# Altium footprint library Connectors.PcbLib: 38 footprints (part 3 of 3)
Each footprint in its own frame and in the unit in brackets; x right, y up, seen from the top. Pads: shape width x height; smd on the part's side, far side on the other; paste and mask are expansions set on the pad; w line width, h text height; cw(c..) or ccw(c..) is an arc to the next point about the centre after c.
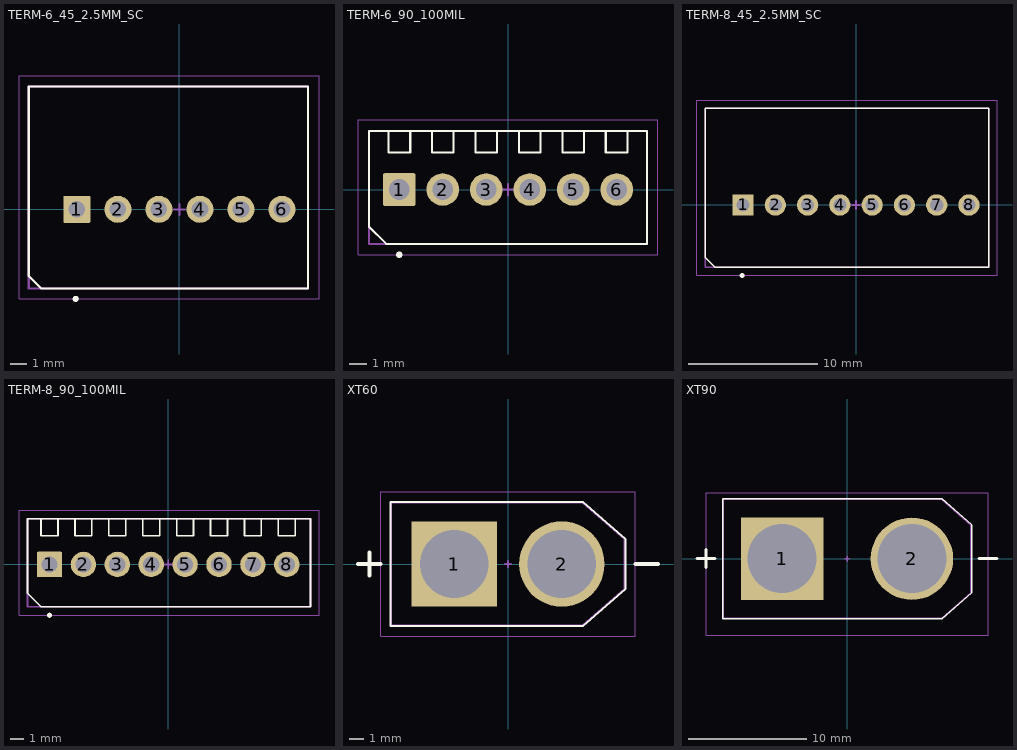
[diagram p2: the footprints below, top view; thin cyan lines are the x and y axes]

## TERM-6_45_2.5MM_SC [mil] "Spring-Cage 6 pos Terminal Block 45deg entry 2.5mm pitch, based on 1989780"
height 515
pads (7):
  rrect10% 65x65 hole 40: 1(-246.06,0)
  round 65 hole 40: 2(-147.64,0) 3(-49.21,0) 4(49.21,0) 5(147.64,0) 6(246.06,0)
  round 15 on Top Overlay: ""(-248.94,-215)
Top Overlay:
  lines w5: -361.57,-160 -331.57,-190 308.43,-190 308.43,295 -361.57,295 -361.57,-160
Top Designator:
  text "'.Comment'" at -86.55,93.34 h20
  text ".Designator" at -101.54,133.34 h20
Top Assembly (Mech13):
  circle w10: c-246.06,0 r2.5
  lines w5: -13,0 13,0 ; 0,-13 0,13 ; -361.57,-190 308.43,-190 308.43,295 -361.57,295 -361.57,-190
Top Courtyard (Mech15):
  lines w2.5: -385,-215 -385,320 335,320 335,-215 -385,-215
3D body "pxc_1989780_02_PTSA-0-5-6-2-5-F_3D.stp": height 516.25, standoff -137.3, extent -351.38,-185 298.23,287.44

## TERM-6_90_100MIL [mil] "Screw-in 6 pos Terminal Block 90deg 100mil pitch, based on 1725698"
height 335
pads (7):
  rrect10% 75x75 hole 48: 1(-250,0)
  round 75 hole 48: 2(-150,0) 3(-50,0) 4(50,0) 5(150,0) 6(250,0)
  round 15 on Top Overlay: ""(-250,-150)
Top Overlay:
  lines w5: -275,135 -275,85 -225,85 -225,135 ; -175,135 -175,85 -125,85 -125,135 ; -75,135 -75,85 -25,85 -25,135 ; 25,135 25,85 75,85 75,135 ; 125,135 125,85 175,85 175,135 ; 225,135 225,85 275,85 275,135 ; -320,-85 -280,-125 320,-125 320,135 -320,135 -320,-85
Top Designator:
  text "'.Comment'" at -84.97,-111.66 h20
  text ".Designator" at -99.97,-71.66 h20
Top Assembly (Mech13):
  circle w10: c-250,0 r2.5
  lines w5: -13,0 13,0 ; 0,-13 0,13 ; -320,-125 -320,135 320,135 320,-125 -320,-125
Top Courtyard (Mech15):
  lines w2.5: -345,-150 -345,160 345,160 345,-150 -345,-150
3D body "pxc_1725698_05_MPT-0-5-6-2-54_3D.stp": height 335.15, standoff -137.3, extent -309.06,-120 309.06,124.09

## TERM-8_45_2.5MM_SC [mil] "Spring-Cage 8 pos Terminal Block 45deg entry 2.5mm pitch, based on 1989803"
height 515
pads (9):
  rrect10% 65x65 hole 40: 1(-344.49,0)
  round 65 hole 40: 2(-246.06,0) 3(-147.64,0) 4(-49.21,0) 5(49.21,0) 6(147.64,0) 7(246.06,0) 8(344.49,0)
  round 15 on Top Overlay: ""(-347.36,-215)
Top Overlay:
  lines w5: -460,-160 -460,295 405,295 405,-190 -430,-190 -460,-160
Top Designator:
  text ".Designator" at -99.97,128.34 h20
  text "'.Comment'" at -84.97,88.34 h20
Top Assembly (Mech13):
  circle w10: c-344.49,0 r2.5
  lines w5: -13,0 13,0 ; 0,-13 0,13 ; -460,-190 -460,295 405,295 405,-190 -460,-190
Top Courtyard (Mech15):
  lines w2.5: -485,-215 -485,320 430,320 430,-215 -485,-215
3D body "pxc_1989803_02_PTSA-0-5-8-2-5-F_3D.stp": height 516.25, standoff -137.3, extent -453.23,-186 393.23,286.44

## TERM-8_90_100MIL [mil] "Screw-in 8 pos Terminal Block 90deg 100mil pitch, based on 1725711"
height 335
pads (9):
  rrect10% 75x75 hole 48: 1(-350,0)
  round 75 hole 48: 2(-250,0) 3(-150,0) 4(-50,0) 5(50,0) 6(150,0) 7(250,0) 8(350,0)
  round 15 on Top Overlay: ""(-350,-150)
Top Overlay:
  lines w5: -375,135 -375,85 -325,85 -325,135 ; -275,135 -275,85 -225,85 -225,135 ; -175,135 -175,85 -125,85 -125,135 ; -75,135 -75,85 -25,85 -25,135 ; 25,135 25,85 75,85 75,135 ; 125,135 125,85 175,85 175,135 ; 225,135 225,85 275,85 275,135 ; 325,135 325,85 375,85 375,135 ; -415,-85 -375,-125 420,-125 420,135 -415,135 -415,-85
Top Designator:
  text "'.Comment'" at -84.97,-111.66 h20
  text ".Designator" at -99.97,-71.66 h20
Top Assembly (Mech13):
  circle w10: c-350,0 r2.5
  lines w5: -13,0 13,0 ; 0,-13 0,13 ; -415,-125 -415,135 420,135 420,-125 -415,-125
Top Courtyard (Mech15):
  lines w2.5: -440,-150 -440,160 445,160 445,-150 -440,-150
3D body "pxc_1725711_05_MPT-0-5-8-2-54_3D.stp": height 335.15, standoff -137.3, extent -409.06,-120 409.06,124.09

## XT60 [mil]
pads (2):
  rect 225x225 hole 180: 1(-141.73,0)
  round 225 hole 180: 2(141.73,0)
Top Overlay:
  lines w5: 197.71,-163 -309,-163 -309,163 197.71,163 ; 198,-163 309,-66 309,66 198,163
  lines w10: -395,0 -335,0 ; -365,-30 -365,30 ; 335,0 395,0
Top Designator:
  text "'.Comment'" at -38,-26 h20
  text "'.Designator'" at -38,14.66 h20
Top Assembly (Mech13):
  circle w10: c-141.73,0 r2.5
  lines w5: -8,0 8,0 ; 0,-8 0,8 ; 195.3,-162 -308,-162 -308,162 196.72,162 307,64.58 307,-63.33 ; 196.72,-162 307,-64.58
Top Courtyard (Mech15):
  lines w2.5: -335,-190 -335,190 335,190 335,-190 -335,-190
3D body "XT60-M--3DModel-STEP-56544.STEP": height 630.42, standoff -176.67, extent -305.12,-159.45 305.12,159.45

## XT90 [mil]
pads (3):
  rect 275x275 hole 230: 1(-216.54,0)
  round 275 hole 230: 2(216.54,0)
  round 15 on Top Overlay: ""(329,0)
Top Overlay:
  lines w5: -415,-200 316.39,-200 415,-113.83 415,114.15 316.76,200 -415,200 -415,-200
  lines w10: -500,0 -440,0 ; -470,-30 -470,30 ; 440,0 500,0
Top Designator:
  text "'.Comment'" at -38,-26 h20
  text "'.Designator'" at -38,14.66 h20
Top Assembly (Mech13):
  circle w10: c-216.54,0 r2.5
  lines w5: -8,0 8,0 ; 0,-8 0,8 ; -413,-198 -413,198 315.28,198 413,111.68 413,-112.58 316.3,-198 -413,-198
Top Courtyard (Mech15):
  lines w2.5: -470,-255 -470,220 470,220 470,-255 -470,-255
3D body "XT90 Male.STEP": height 819.4, standoff -216.03, extent -412.4,-196.85 412.4,196.85